# Altium footprint library HPD_D_1.0.PcbLib: 33 footprints (part 2 of 3)
Each footprint in its own frame and in the unit in brackets; x right, y up, seen from the top. Pads: shape width x height; smd on the part's side, far side on the other; paste and mask are expansions set on the pad; w line width, h text height; cw(c..) or ccw(c..) is an arc to the next point about the centre after c.
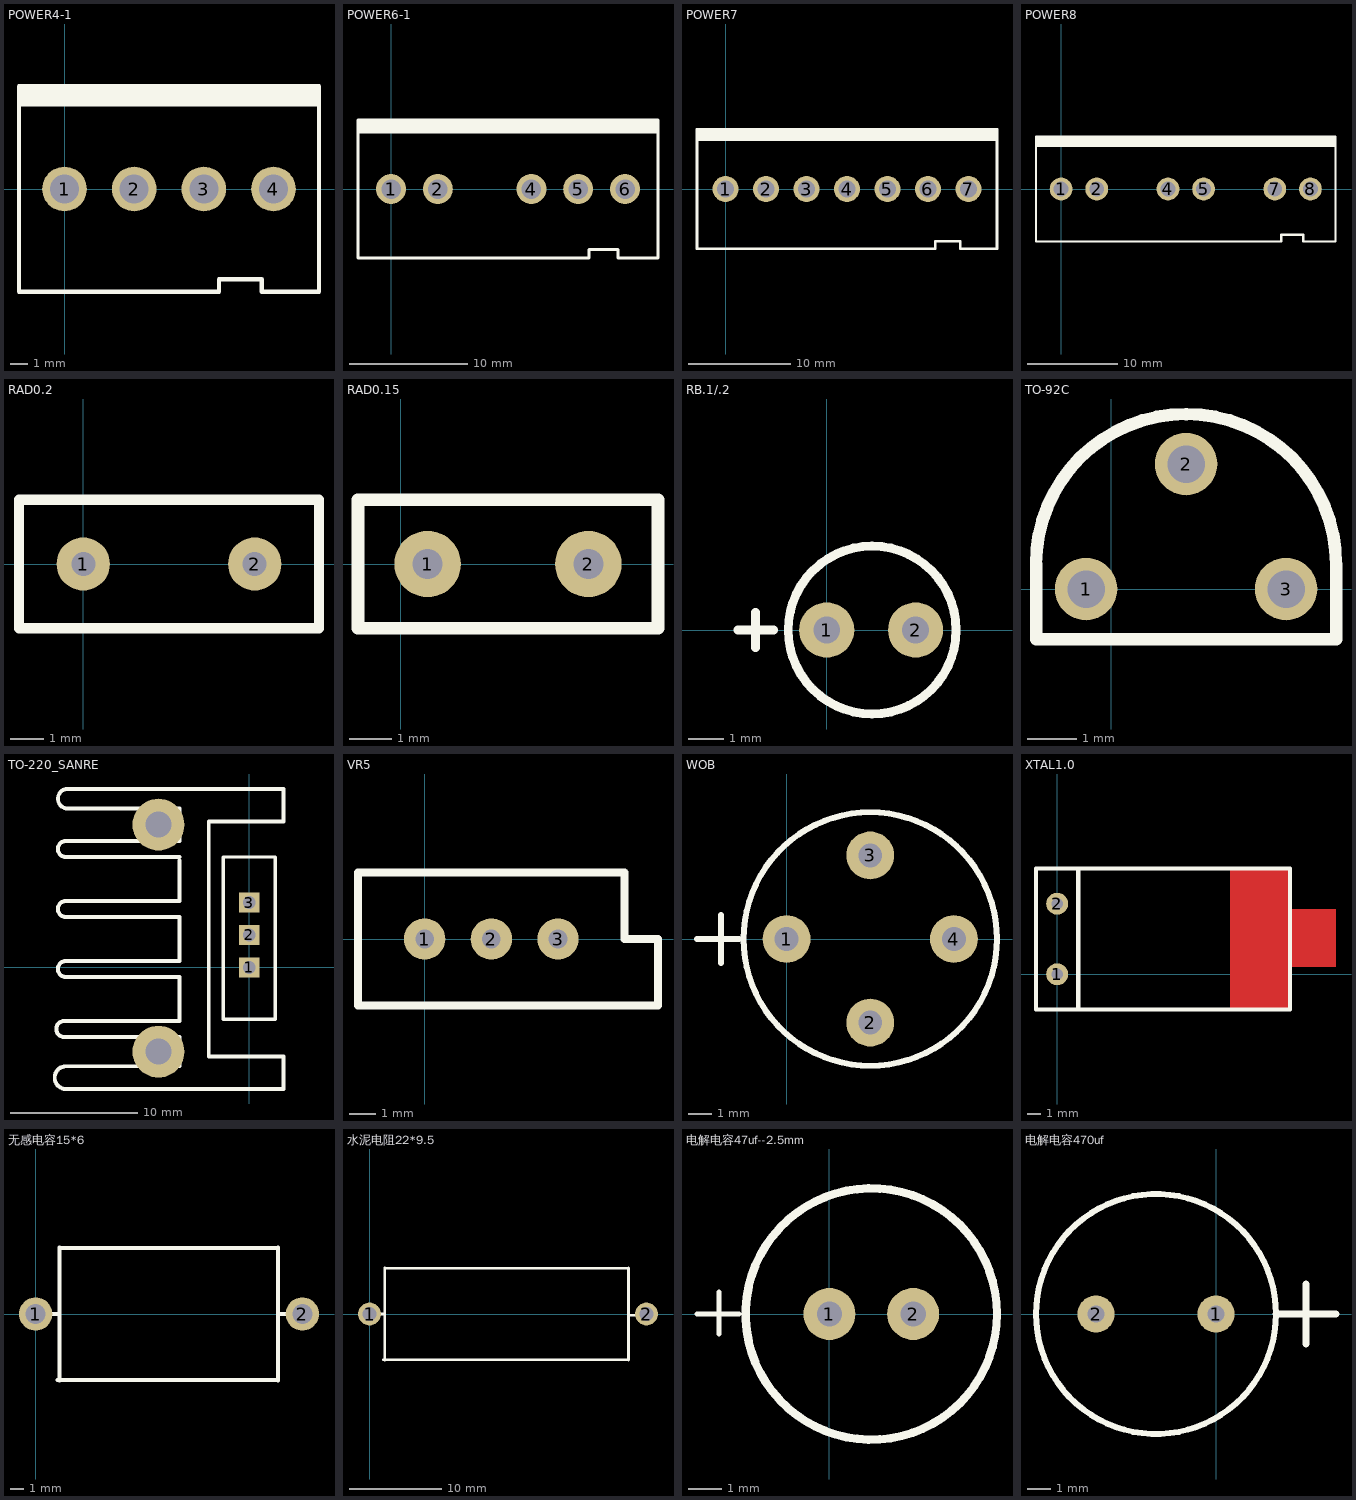
[diagram p1: the footprints below, top view; thin cyan lines are the x and y axes]

## POWER4-1 [mil]
pads (4):
  round 100 hole 65: 1(0,0) 2(156,0) 3(312,0) 4(468,0)
Top Overlay:
  rectangle: -102,190 570,230
  lines w10: -98,190 570,190 ; 442,-230 570,-230 570,230 -102,230 -102,-230 346,-230 346,-202 442,-202 442,-228

## POWER6-1 [mil]
pads (5):
  round 100 hole 65: 1(0,0) 2(156,0) 4(468,0) 5(624,0) 6(780,0)
Top Overlay:
  rectangle: -110,190 890,230
  lines w10: -110,190 890,190 ; 756,-230 890,-230 890,230 -110,230 -110,-230 660,-230 660,-202 756,-202 756,-228

## POWER7 [mil]
pads (7):
  round 100 hole 65: 1(0,0) 2(156,0) 3(312,0) 4(468,0) 5(624,0) 6(780,0) 7(936,0)
Top Overlay:
  rectangle: -110,190 1044,230
  lines w10: -110,190 1044,190 ; 904,-230 1044,-230 ; 904,-228 904,-202 808,-202 808,-230 -110,-230 -110,230 1046,230 1046,-230 1044,-228

## POWER8 [mil]
pads (6):
  round 100 hole 65: 1(0,0) 2(156,0) 4(468,0) 5(624,0) 7(936,0) 8(1092,0)
Top Overlay:
  rectangle: -110,190 1204,230
  lines w10: -110,190 1202,190 ; 964,-230 -110,-230 -110,230 1202,230 1202,-228 ; 964,-228 964,-200 1060,-200 1060,-230 1202,-230

## RAD0.2 [mil]
pads (2):
  round 62 hole 28: 1(0,0) 2(200,0)
Top Overlay:
  lines w12: -75,-75 275,-75 275,75 -75,75 -75,-75

## RAD0.15 [mil]
pads (2):
  round 62 hole 28: 1(25,0) 2(175,0)
Top Overlay:
  lines w12: -40,-60 -40,60 240,60 240,-60 -40,-60

## RB.1/.2 [mil]
pads (2):
  round 62 hole 30: 1(0,0) 2(100,0)
Top Overlay:
  circle w10: c51.18,0 r94.49
  lines w10: -100,0 -60,0 ; -80,-20 -80,20

## TO-92C [mil]
pads (3):
  round 50 hole 30: 1(-20,0) 2(60,100) 3(140,0)
Top Overlay:
  lines w10: -60,-40 -60,20 cw(c60,20) 180,20 180,-40 -60,-40

## TO-220_SANRE [mil]
pads (5):
  rect 62x62 hole 39.37: 1(0,0) 2(0,100) 3(0,200)
  round 160 hole 80: ""(-280,-260) ""(-280,440)
Top Overlay:
  lines w10: -80,-160 -80,340 80,340 80,-160 -80,-160
  lines w12: -570,-215 cw(c-570,-190) -570,-165 -215,-165 -215,-30 -565,-30 cw(c-565,-5) -565,20 -215,20 -215,155 -565,155 cw(c-565,180) -565,205 -215,205 -215,330 ; -570,390 -215,390 -215,490 -560,490 cw(c-560,520) -560,550 ; -565,-215 -220,-215 ; -565,390 ccw(c-565,365) -565,340 -215,340 ; -555,550 105,550 105,450 -125,450 -125,-275 105,-275 105,-375 -565,-375 cw(c-565,-340) -565,-305 -220,-305 ; -215,-305 -215,-215

## VR5 [mil]
pads (3):
  round 62 hole 28: 1(0,0) 2(100,0) 3(200,0)
Top Overlay:
  lines w12: -100,-100 -100,100 300,100 300,0 350,0 350,-100 -100,-100

## WOB [mil]
pads (4):
  round 80 hole 40: 1(0,0) 2(140,-140) 3(140,140) 4(280,0)
Top Overlay:
  circle w10: c140,0 r212.13
  lines w10: -150,0 -80,0 ; -110,-40 -110,40

## XTAL1.0 [mil]
pads (2):
  round 62 hole 32: 1(0,0) 2(0,200)
Top Layer:
  rectangle: 635,20.01 790,185.01
  rectangle: 490,-99.99 660,300.01
Top Overlay:
  lines w12: 60,-100 660,-100 660,300 60,300 ; 60,-100 -60,-100 -60,300 60,300 ; 60,-100 60,300
Top Solder:
  rectangle: 635,20.01 790,185.01
  rectangle: 490,-99.99 660,300.01

## 无感电容15*6 [mm]
pads (2):
  round 2.5 hole 1.5: 1(0,0) 2(20,0)
Top Overlay:
  lines w0.305: 1.016,0 1.778,0 ; 1.651,-4.953 18.034,-4.953 ; 1.778,-5 1.778,5 ; 1.778,4.953 18.161,4.953 ; 18.161,-5 18.161,5 ; 18.161,0 18.923,0

## 水泥电阻22*9.5 [mm]
pads (2):
  round 2.5 hole 1.5: 1(0,0) 2(30,0)
Top Overlay:
  lines w0.305: 0.889,0 1.651,0 ; 1.524,-4.953 27.94,-4.953 ; 1.651,-5 1.651,5 ; 1.651,4.953 28.067,4.953 ; 28.067,-5 28.067,5 ; 28.067,-0.127 28.829,-0.127

## 电解电容47uf--2.5mm [mil] "47uf"
pads (2):
  round 62 hole 30: 1(0,0) 2(100,0)
Top Overlay:
  circle w10: c50,0 r150
  lines w6: -158,0 -108,0 ; -132,-24 -132,26

## 电解电容470uf [mil] "5.04mm"
pads (2):
  round 62 hole 28: 1(0,0) 2(-200,0)
Top Overlay:
  circle w10: c-100,0 r200
  lines w12: 100,0 200,0 ; 150,-50 150,50